# Altium footprint library PcbLib3.PcbLib: 1 footprints
Each footprint in its own frame and in the unit in brackets; x right, y up, seen from the top. Pads: shape width x height; smd on the part's side, far side on the other; paste and mask are expansions set on the pad; w line width, h text height; cw(c..) or ccw(c..) is an arc to the next point about the centre after c.
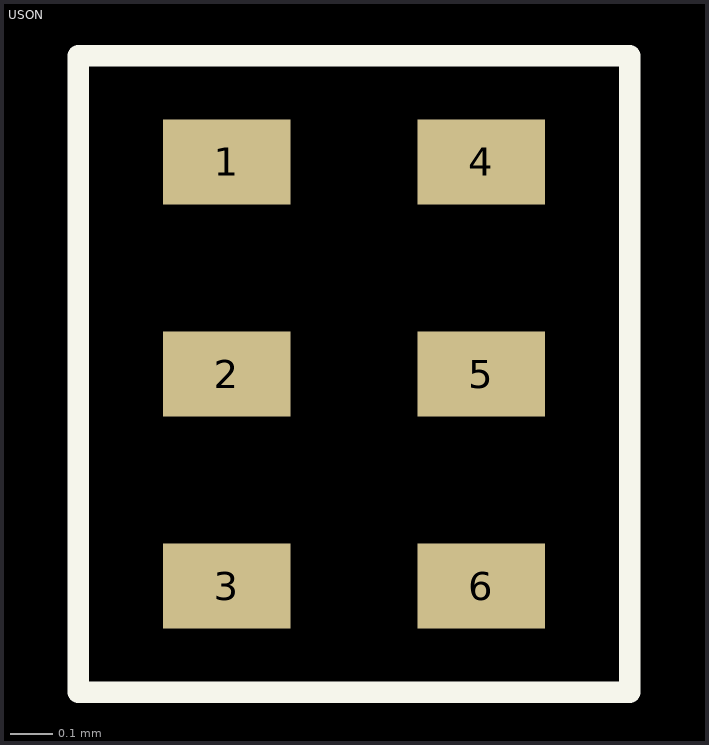
[diagram p0: the footprint, top view; thin cyan lines are the x and y axes]

## USON [mm]
height 0.6
pads (6):
  rect 0.3x0.2 all layers, no hole: 1(-919,-919) 2(-919,-919.5) 3(-919,-920) 4(-918.4,-919) 5(-918.4,-919.5) 6(-918.4,-920)
Top Overlay:
  lines w0.05: -919.35,-920.25 -918.05,-920.25 -918.05,-918.75 -919.35,-918.75 -919.35,-920.25